# Altium footprint library 薛加彬元件封装库.PcbLib: 38 footprints (part 1 of 3)
Each footprint in its own frame and in the unit in brackets; x right, y up, seen from the top. Pads: shape width x height; smd on the part's side, far side on the other; paste and mask are expansions set on the pad; w line width, h text height; cw(c..) or ccw(c..) is an arc to the next point about the centre after c.
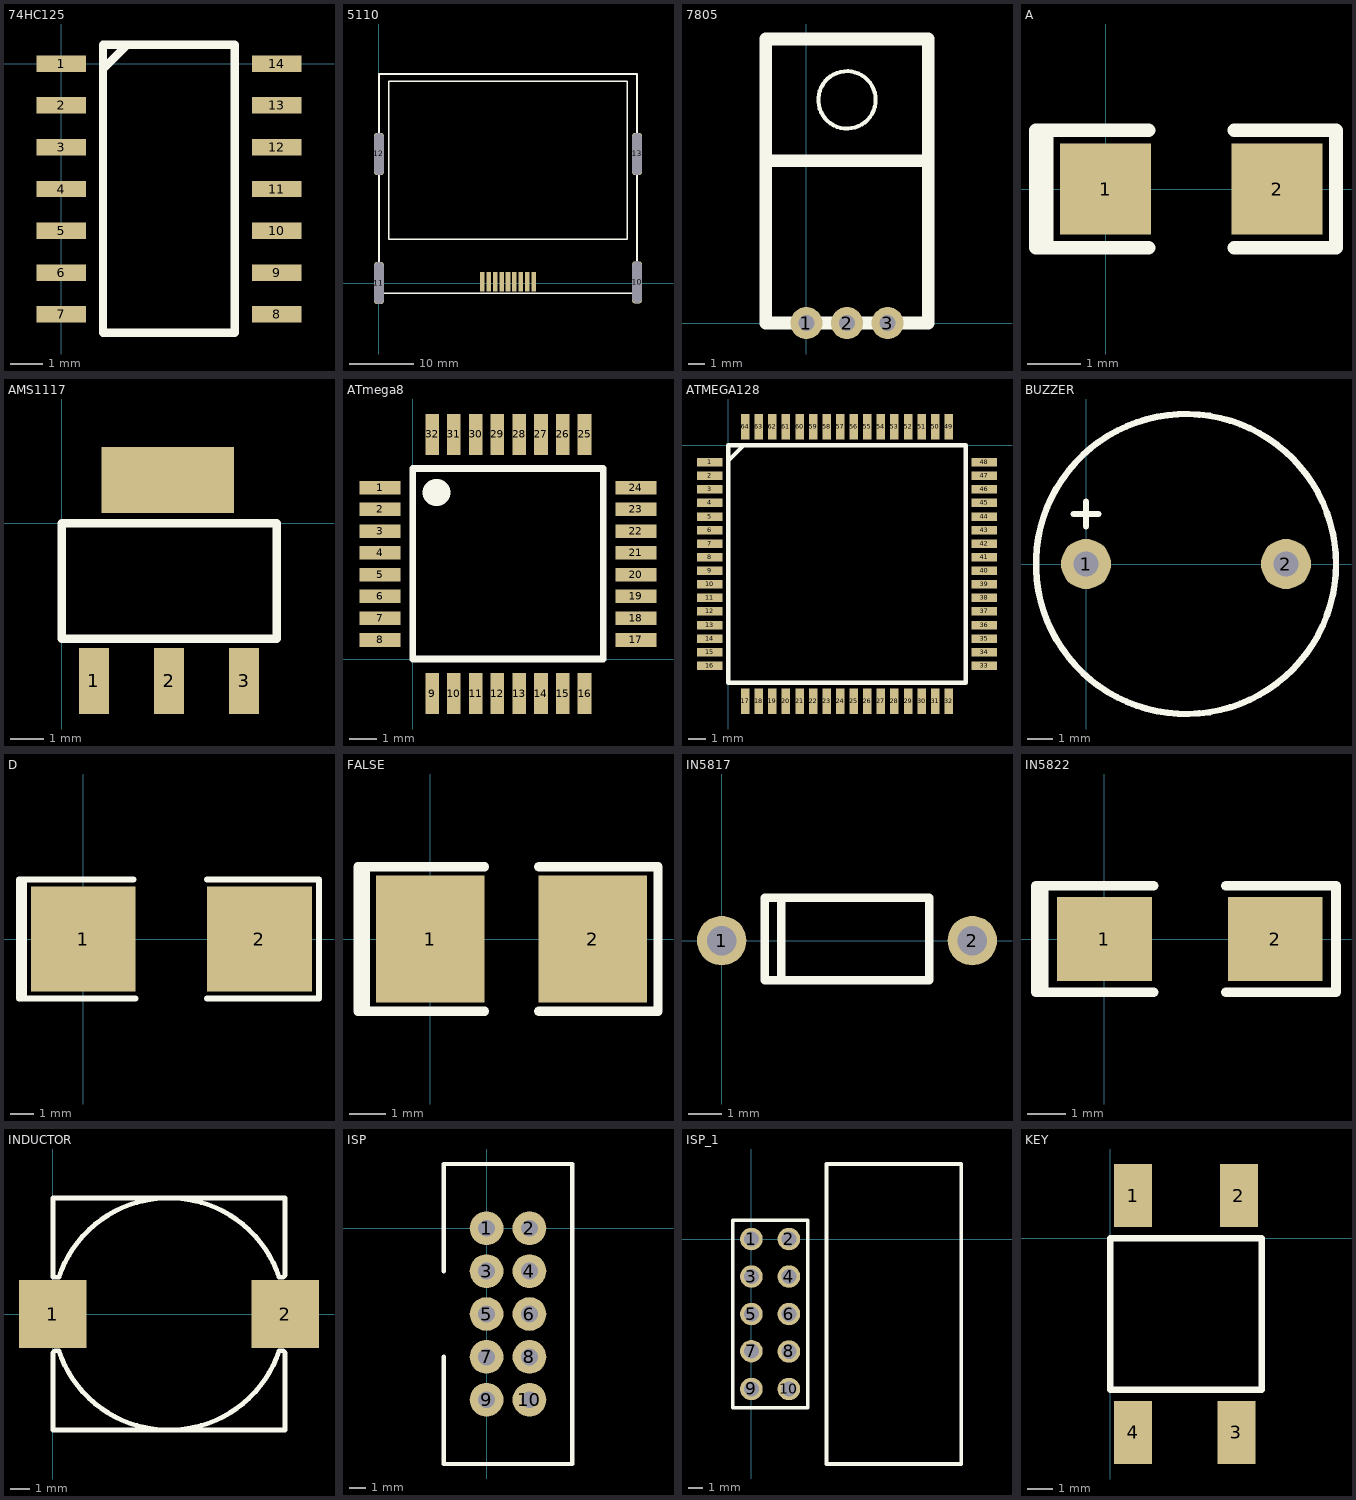
[diagram p0: the footprints below, top view; thin cyan lines are the x and y axes]

## 74HC125 [mm]
pads (14):
  rect 1.5x0.5 smd: 1(0,0) 2(0,-1.27) 3(0,-2.54) 4(0,-3.81) 5(0,-5.08) 6(0,-6.35) 7(0,-7.62) 8(6.55,-7.62) 9(6.55,-6.35) 10(6.55,-5.08) 11(6.55,-3.81) 12(6.55,-2.54) 13(6.55,-1.27) 14(6.55,0)
Top Overlay:
  lines w0.254: 1.27,-0.3 1.27,-0.16 2,0.57 ; 1.27,-8.18 1.27,0.57 5.27,0.57 5.27,-8.18 1.27,-8.18

## 5110 [mm]
pads (13):
  rect 0.7x3 smd: 1(16,0.2) 2(17,0.2) 3(18,0.2) 4(19,0.2) 5(20,0.2) 6(21,0.2) 7(22,0.2) 8(23,0.2) 9(24,0.2)
  rrect50% 1.5x6.5 hole 1.5 slot 6.5 at 90 deg: 10(40,0.1) 11(0,0) 12(0,20) 13(40,20)
Top Overlay:
  lines w0.254: 0,-1.6 0,32.4 40,32.4 40,-1.6 0,-1.6 ; 1.5,6.8 38.5,6.8 38.5,31.3 1.5,31.3 1.5,6.8

## 7805 [mm]
pads (3):
  round 2 hole 1: 1(0,0) 2(2.54,0) 3(5.08,0)
Top Overlay:
  circle w0.254: c2.54,13.97 r1.796
  lines w0.8: -2.54,10.16 7.62,10.16 ; -2.54,0 -2.54,17.78 7.62,17.78 7.62,0 -2.54,0

## A [mm]
pads (2):
  rect 1.7x1.7 smd: 1(0,0) 2(3.2,0)
Top Overlay:
  lines w0.254: -0.7,1.1 -1.3,1.1 -1.3,-1.1 -0.9,-1.1 ; 0.8,-1.1 -0.9,-1.1 ; 0.8,1.1 -1.1,1.1 -1.1,-1.1 -0.9,-1.1 ; 2.4,-1.1 4.3,-1.1 4.3,1.1 2.4,1.1

## AMS1117 [mm]
pads (4):
  rect 0.9x2 smd: 1(0.97,-4.77) 2(3.24,-4.77) 3(5.51,-4.77)
  rect 4x2 smd: ""(3.2,1.3)
Top Overlay:
  lines w0.254: 0,-3.5 6.5,-3.5 6.5,0 0,0 0,-3.5

## ATmega8 [mm]
pads (32):
  rect 1.5x0.5 smd: 1(-1.2,6.3) 2(-1.2,5.5) 3(-1.2,4.7) 4(-1.2,3.9) 5(-1.2,3.1) 6(-1.2,2.3) 7(-1.2,1.5) 8(-1.2,0.7) 17(8.2,0.7) 18(8.2,1.5) 19(8.2,2.3) 20(8.2,3.1) 21(8.2,3.9) 22(8.2,4.7) 23(8.2,5.5) 24(8.2,6.3)
  rect 0.5x1.5 smd: 9(0.711,-1.27) 10(1.511,-1.27) 11(2.311,-1.27) 12(3.111,-1.27) 13(3.911,-1.27) 14(4.711,-1.27) 15(5.511,-1.27) 16(6.311,-1.27) 25(6.311,8.254) 26(5.511,8.254) 27(4.711,8.254) 28(3.911,8.254) 29(3.111,8.254) 30(2.311,8.254) 31(1.511,8.254) 32(0.711,8.254)
Top Overlay:
  lines w0.254: 0,0 7,0 7,7 0,7 0,0
  lines w1: 0.864,6.121 0.889,6.121

## ATMEGA128 [mm]
pads (64):
  rect 1.5x0.5 smd: 1(-1.1,-1) 2(-1.1,-1.8) 3(-1.1,-2.6) 4(-1.1,-3.4) 5(-1.1,-4.2) 6(-1.1,-5) 7(-1.1,-5.8) 8(-1.1,-6.6) 9(-1.1,-7.4) 10(-1.1,-8.2) 11(-1.1,-9) 12(-1.1,-9.8) 13(-1.1,-10.6) 14(-1.1,-11.4) 15(-1.1,-12.2) 16(-1.1,-13) 33(15.1,-13) 34(15.1,-12.2) 35(15.1,-11.4) 36(15.1,-10.6) 37(15.1,-9.8) 38(15.1,-9) 39(15.1,-8.2) 40(15.1,-7.4) 41(15.1,-6.6) 42(15.1,-5.8) 43(15.1,-5) 44(15.1,-4.2) 45(15.1,-3.4) 46(15.1,-2.6) 47(15.1,-1.8) 48(15.1,-1)
  rect 0.5x1.5 smd: 17(1,-15.1) 18(1.8,-15.1) 19(2.6,-15.1) 20(3.4,-15.1) 21(4.2,-15.1) 22(5,-15.1) 23(5.8,-15.1) 24(6.6,-15.1) 25(7.4,-15.1) 26(8.2,-15.1) 27(9,-15.1) 28(9.8,-15.1) 29(10.6,-15.1) 30(11.4,-15.1) 31(12.2,-15.1) 32(13,-15.1) 49(13,1.1) 50(12.2,1.1) 51(11.4,1.1) 52(10.6,1.1) 53(9.8,1.1) 54(9,1.1) 55(8.2,1.1) 56(7.4,1.1) 57(6.6,1.1) 58(5.8,1.1) 59(5,1.1) 60(4.2,1.1) 61(3.4,1.1) 62(2.6,1.1) 63(1.8,1.1) 64(1,1.1)
Top Overlay:
  lines w0.254: 0,-0.9 0.8,-0.1 ; 0,-14 14,-14 14,0 0,0 0,-14

## BUZZER [mm]
pads (2):
  round 2 hole 1: 1(0,0) 2(8,0)
Top Overlay:
  circle w0.254: c4,0 r6
  lines w0.254: -0.5,2 0.5,2 ; 0,1.5 0,2.5

## D [mm]
pads (2):
  rect 4.4x4.4 smd: 1(0,0) 2(7.4,0)
Top Overlay:
  lines w0.254: -2.1,-2.5 -2.7,-2.5 -2.7,2.5 -1.8,2.5 ; 2.1,2.5 -2.5,2.5 -2.5,-2.5 2.2,-2.5 ; 5.2,-2.5 9.9,-2.5 9.9,2.5 5.2,2.5

## FALSE [mm]
pads (2):
  rect 3x3.5 smd: 1(0,0) 2(4.5,0)
Top Overlay:
  lines w0.254: -1.3,-2 -2,-2 -2,2 -1.2,2 ; 1.5,-2 -1.8,-2 -1.8,2 1.5,2 ; 3,-2 6.3,-2 6.3,2 3,2

## IN5817 [mm]
pads (2):
  round 1.5 hole 0.9: 1(0,0) 2(7.6,0)
Top Overlay:
  lines w0.254: 1.8,-1.2 1.8,1.3 ; 1.3,-1.2 6.3,-1.2 6.3,1.3 1.3,1.3 1.3,-1.2

## IN5822 [mm]
pads (2):
  rect 2.5x2.2 smd: 1(0,0) 2(4.5,0)
Top Overlay:
  lines w0.254: -1.1,1.4 -1.8,1.4 -1.8,-1.4 -1.6,-1.4 ; 1.3,-1.4 -1.6,-1.4 ; 1.3,1.4 -1.6,1.4 -1.6,-1.4 ; 3.2,-1.4 6.1,-1.4 6.1,1.4 3.2,1.4

## INDUCTOR [mm]
pads (2):
  rect 3.5x3.5 smd: 1(0,0) 2(12,0)
Top Overlay:
  lines w0.254: 0.305,1.9 0,1.9 0,6 12,6 12,2 11.897,1.897 11.692,1.897 ccw(c6,0) 0.308,1.897 ; 0,-6 0,-2 0.103,-1.897 0.308,-1.897 ccw(c6,0) 11.692,-1.897 11.897,-1.897 12,-2 12,-6 0,-6

## ISP [mm]
pads (10):
  round 2 hole 1: 1(0,0) 2(2.54,0) 3(0,-2.54) 4(2.54,-2.54) 5(0,-5.08) 6(2.54,-5.08) 7(0,-7.62) 8(2.54,-7.62) 9(0,-10.16) 10(2.54,-10.16)
Top Overlay:
  lines w0.254: -2.54,-7.62 -2.54,-13.97 5.08,-13.97 5.08,3.81 -2.54,3.81 -2.54,-2.54

## ISP_1 [mil]
pads (10):
  round 60 hole 40: 1(0,0) 2(100,0) 3(0,-100) 4(100,-100) 5(0,-200) 6(100,-200) 7(0,-299.21) 8(100,-300) 9(0,-400) 10(100,-400)
Top Overlay:
  lines w10: -50,-450 150,-450 150,50 -50,50 -50,-450 ; 200,-600 200,200 560,200 560,-600 200,-600

## KEY [mm]
pads (4):
  rect 1.5x2.5 smd: 1(0.9,1.7) 2(5.1,1.7) 3(5,-7.7) 4(0.9,-7.7)
Top Overlay:
  lines w0.254: 0,-6 0,0 6,0 6,-6 0,-6